# Altium footprint library PSR500HTQFJ2L00.PcbLib: 3 footprints
Each footprint in its own frame and in the unit in brackets; x right, y up, seen from the top. Pads: shape width x height; smd on the part's side, far side on the other; paste and mask are expansions set on the pad; w line width, h text height; cw(c..) or ccw(c..) is an arc to the next point about the centre after c.
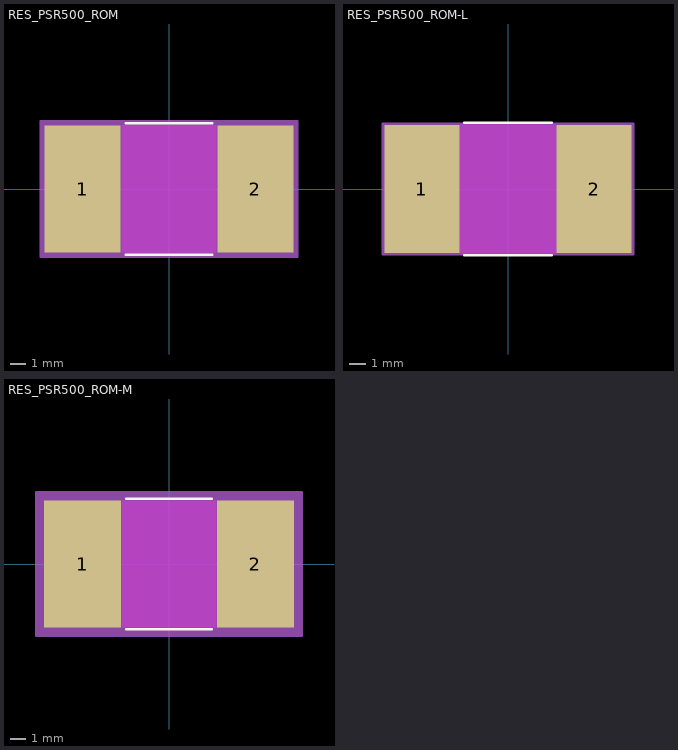
[diagram p0: the footprints below, top view; thin cyan lines are the x and y axes]

## RES_PSR500_ROM [mil]
pads (2):
  rect 189x317 smd paste+0 mask+0: 1(-214.5,0) 2(214.5,0)
Top Layer keep-out:
  region: -118,-156.5 -118,156.5 118,156.5 118,-156.5
Top Overlay:
  lines w6: -107.89,-163.5 107.89,-163.5 ; -107.89,163.5 107.89,163.5
Keep-Out Layer:
  region: -118,-158.5 -118,158.5 118,158.5 118,-158.5
Mechanical 13:
  lines w1: -301,-158.5 -301,158.5 ; -301,-158.5 -120,-158.5 -120,158.5 -301,158.5 ; -301,-158.5 301,-158.5 ; -301,-158.5 -301,158.5 ; -301,158.5 301,158.5 ; 301,-158.5 120,-158.5 120,158.5 301,158.5 ; 301,-158.5 301,158.5 ; 301,-158.5 301,158.5
Mechanical 15:
  region: 319,-168.5 -319,-168.5 -319,168.5 319,168.5
  lines w6: -319,-168.5 -319,168.5 319,168.5 319,-168.5 -319,-168.5
3D body "RES_PSR500_ROM.step": height 79.02, standoff 0, extent -300.98,-158.5 300.98,158.5
3D body "RES_PSR500_ROM.step": height 79.02, standoff 0, extent -300.98,-158.5 300.98,158.5

## RES_PSR500_ROM-L [mil]
pads (2):
  rect 185x315 smd paste+0 mask+0: 1(-212.5,0) 2(212.5,0)
Top Layer keep-out:
  region: -118,-156.5 -118,156.5 118,156.5 118,-156.5
Top Overlay:
  lines w6: -108.35,-163.5 108.35,-163.5 ; -108.35,163.5 108.35,163.5
Keep-Out Layer:
  region: -118,-158.5 -118,158.5 118,158.5 118,-158.5
Mechanical 13:
  lines w1: -301,-158.5 -301,158.5 ; -301,-158.5 301,-158.5 ; -301,-158.5 -120,-158.5 -120,158.5 -301,158.5 ; -301,-158.5 -301,158.5 ; -301,158.5 301,158.5 ; 301,-158.5 301,158.5 ; 301,-158.5 301,158.5 ; 301,-158.5 120,-158.5 120,158.5 301,158.5
Mechanical 15:
  region: 309,-161.5 -309,-161.5 -309,161.5 309,161.5
  lines w6: -309,-161.5 309,-161.5 309,161.5 -309,161.5 -309,-161.5
3D body "RES_PSR500_ROM.step": height 79.02, standoff 0, extent -300.98,-158.5 300.98,158.5

## RES_PSR500_ROM-M [mil]
pads (2):
  rect 193x319 smd paste+0 mask+0: 1(-216.5,0) 2(216.5,0)
Top Layer keep-out:
  region: -118,-156.5 -118,156.5 118,156.5 118,-156.5
Top Overlay:
  lines w6: -107.53,-163.5 107.53,-163.5 ; -107.53,163.5 107.53,163.5
Keep-Out Layer:
  region: -118,-158.5 -118,158.5 118,158.5 118,-158.5
Mechanical 13:
  lines w1: -301,-158.5 -301,158.5 ; -301,-158.5 301,-158.5 ; -301,-158.5 -120,-158.5 -120,158.5 -301,158.5 ; -301,-158.5 -301,158.5 ; -301,158.5 301,158.5 ; 301,-158.5 301,158.5 ; 301,-158.5 301,158.5 ; 301,-158.5 120,-158.5 120,158.5 301,158.5
Mechanical 15:
  region: 333,-179.5 -333,-179.5 -333,179.5 333,179.5
  lines w6: -333,-179.5 333,-179.5 333,179.5 -333,179.5 -333,-179.5
3D body "RES_PSR500_ROM.step": height 79.02, standoff 0, extent -300.98,-158.5 300.98,158.5